# Altium schematic symbol library Ahristi_Library.SchLib: 438 symbols (part 4 of 5)
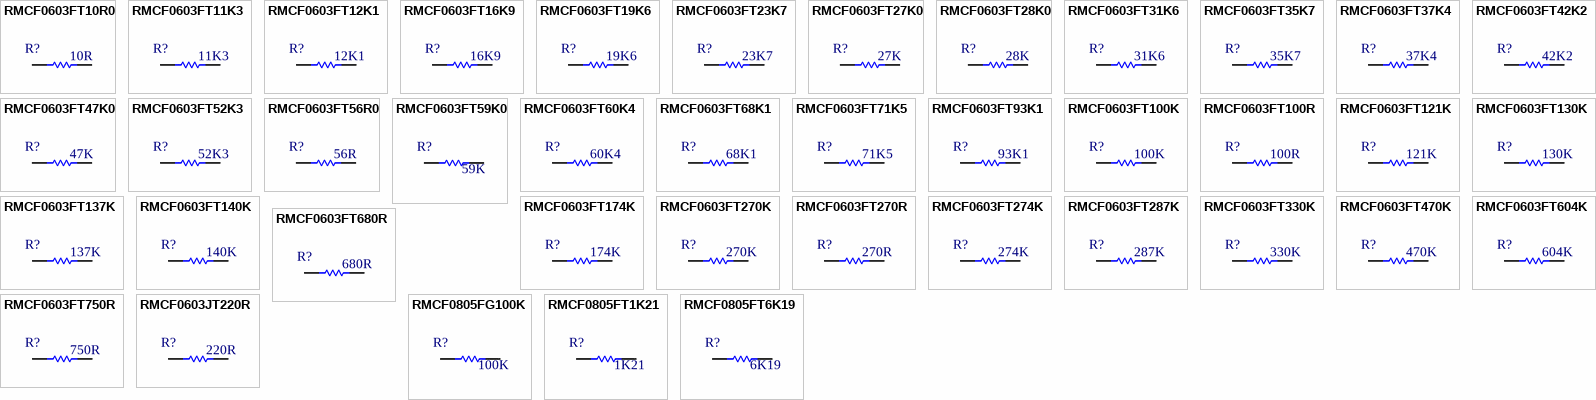
[diagram p15: symbols RMCF0603FT10R0 to RMCF0805FT6K19]

## RMCF0603FT470K
designator R?  Resistance: 470K  (hidden comment: RMCF0603FT470K)
470 kOhms ±1% 0.1W, 1/10W Chip Resistor 0603 (1608 Metric) Automotive AEC-Q200 Thick Film; Part Number: RMCF0603FT470K; Tolerance: 1%; Distributor: Digikey; Distributor Part Number: RMCF0603FT470KCT-ND; Case Code: 0603
footprint RESC0603 (Chip Resistor, 2-Leads, Body 1.60x0.80mm, IPC Medium Density)
pins: 1, 2

## RMCF0603FT604K
designator R?  Resistance: 604K  (hidden comment: RMCF0603FT604K)
604 kOhms ±1% 0.1W, 1/10W Chip Resistor 0603 (1608 Metric) Automotive AEC-Q200 Thick Film; Part Number: RMCF0603FT604K; Tolerance: 1%; Distributor: Digikey; Distributor Part Number: RMCF0603FT604KCT-ND; Case Code: 0603
footprint RESC0603 (Chip Resistor, 2-Leads, Body 1.60x0.80mm, IPC Medium Density)
pins: 1, 2

## RMCF0603FT680R
designator R?  Resistance: 680R  (hidden comment: RMCF0603FT680R)
680 Ohms ±1% 0.1W, 1/10W Chip Resistor 0603 (1608 Metric) Automotive AEC-Q200 Thick Film; Part Number: RMCF0603FT680R; Tolerance: 1%; Distributor: Digikey; Distributor Part Number: RMCF0603FT680RCT-ND; Case Code: 0603
footprint RESC0603 (Chip Resistor, 2-Leads, Body 1.60x0.80mm, IPC Medium Density)
pins: 1, 2

## RMCF0603FT750R
designator R?  Resistance: 750R  (hidden comment: RMCF0603FT750R)
750 Ohms ±1% 0.1W, 1/10W Chip Resistor 0603 (1608 Metric) Automotive AEC-Q200 Thick Film; Part Number: RMCF0603FT750R; Tolerance: 1%; Distributor: Digikey; Distributor Part Number: RMCF0603FT750RCT-ND; Case Code: 0603
footprint RESC0603 (Chip Resistor, 2-Leads, Body 1.60x0.80mm, IPC Medium Density)
pins: 1, 2

## RMCF0603JT220R
designator R?  Resistance: 220R  (hidden comment: RMCF0603JT220R)
220 Ohms ±5% 0.1W, 1/10W Chip Resistor 0603 (1608 Metric) Automotive AEC-Q200 Thick Film; Tolerance: 1%; Part Number: RMCF0603JT220R; Distributor: Digikey; Distributor Part Number: RMCF0603JT220RCT-ND; Case Code: 0603
footprint RESC0603 (Chip Resistor, 2-Leads, Body 1.60x0.80mm, IPC Medium Density)
pins: 1, 2

## RMCF0805FG100K
designator R?  Resistance: 100K  (hidden comment: RMCF0805FG100K)
100 kOhms ±1% 0.125W, 1/8W Chip Resistor 0805 (2012 Metric) Automotive AEC-Q200 Thick Film; Part Number: RMCF0805FG100K; Tolerance: 1%; Distributor Part Number: RMCF0805FG100KCT-ND; Distributor: Digikey; Case Code: 0805
footprint RESC0805 (Chip Resistor, 2-Leads, Body 1.00x0.50mm, IPC Medium Density)
pins: 1, 2

## RMCF0805FT1K21
designator R?  Resistance: 1K21  (hidden comment: RMCF0805FT1K21)
1.21 kOhms ±1% 0.125W, 1/8W Chip Resistor 0805 (2012 Metric) Automotive AEC-Q200 Thick Film; Part Number: RMCF0805FT1K21; Tolerance: 1%; Distributor Part Number: RMCF0805FT1K21CT-ND; Distributor: Digikey; Case Code: 0805
footprint RESC0805 (Chip Resistor, 2-Leads, Body 1.00x0.50mm, IPC Medium Density)
pins: 1, 2

## RMCF0805FT6K19
designator R?  Resistance: 6K19  (hidden comment: RMCF0805FT6K19)
6.19 kOhms ±1% 0.125W, 1/8W Chip Resistor 0805 (2012 Metric) Automotive AEC-Q200 Thick Film; Part Number: RMCF0805FT6K19; Tolerance: 1%; Distributor Part Number: RMCF0805FT6K19CT-ND; Distributor: Digikey; Case Code: 0805
footprint RESC0805 (Chip Resistor, 2-Leads, Body 1.00x0.50mm, IPC Medium Density)
pins: 1, 2

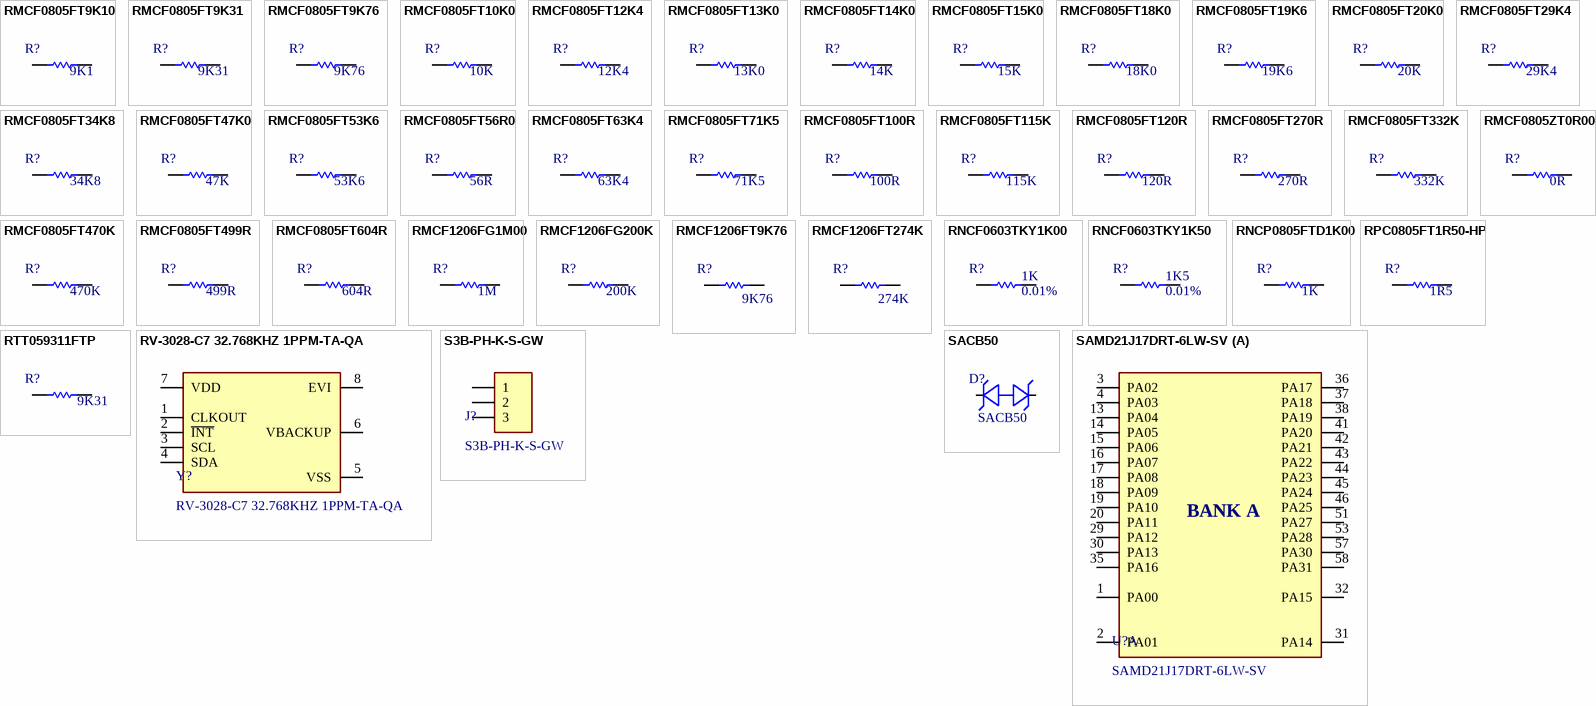
[diagram p9: symbols RMCF0805FT9K10 to SAMD21J17DRT-6LW-SV]

## RMCF0805FT9K10
designator R?  Resistance: 9K1  (hidden comment: RMCF0805FT9K10)
9.1 kOhms ±1% 0.125W, 1/8W Chip Resistor 0805 (2012 Metric) Automotive AEC-Q200 Thick Film; Part Number: RMCF0805FT9K10; Tolerance: 1%; Distributor Part Number: 738-RMCF0805FT9K10CT-ND; Distributor: Digikey; Case Code: 0805
footprint RESC0805 (Chip Resistor, 2-Leads, Body 1.00x0.50mm, IPC Medium Density)
pins: 1, 2

## RMCF0805FT9K31
designator R?  Resistance: 9K31  (hidden comment: RMCF0805FT9K31)
9.31 kOhms ±1% 0.125W, 1/8W Chip Resistor 0805 (2012 Metric) Automotive AEC-Q200 Thick Film; Part Number: RMCF0805FT9K31; Tolerance: 1%; Distributor Part Number: 738-RMCF0805FT9K31CT-ND; Distributor: Digikey; Case Code: 0805
footprint RESC0805 (Chip Resistor, 2-Leads, Body 1.00x0.50mm, IPC Medium Density)
pins: 1, 2

## RMCF0805FT9K76
designator R?  Resistance: 9K76  (hidden comment: RMCF0805FT9K76)
9.76 kOhms ±1% 0.125W, 1/8W Chip Resistor 0805 (2012 Metric) Automotive AEC-Q200 Thick Film; Part Number: RMCF0805FT9K76; Tolerance: 1%; Distributor Part Number: RMCF0805FT9K76CT-ND; Distributor: Digikey; Case Code: 0805
footprint RESC0805 (Chip Resistor, 2-Leads, Body 1.00x0.50mm, IPC Medium Density)
pins: 1, 2

## RMCF0805FT10K0
designator R?  Resistance: 10K  (hidden comment: RMCF0805FT10K0)
10 kOhms ±1% 0.125W, 1/8W Chip Resistor 0805 (2012 Metric) Automotive AEC-Q200 Thick Film; Part Number: RMCF0805FT10K0; Tolerance: 1%; Distributor Part Number: RMCF0805FT10K0CT-ND; Distributor: Digikey; Case Code: 0805
footprint RESC0805 (Chip Resistor, 2-Leads, Body 1.00x0.50mm, IPC Medium Density)
pins: 1, 2

## RMCF0805FT12K4
designator R?  Resistance: 12K4  (hidden comment: RMCF0805FT12K4)
12.4 kOhms ±1% 0.125W, 1/8W Chip Resistor 0805 (2012 Metric) Automotive AEC-Q200 Thick Film; Part Number: RMCF0805FT12K4; Tolerance: 1%; Distributor Part Number: RMCF0805FT12K4CT-ND; Distributor: Digikey; Case Code: 0805
footprint RESC0805 (Chip Resistor, 2-Leads, Body 1.00x0.50mm, IPC Medium Density)
pins: 1, 2

## RMCF0805FT13K0
designator R?  Resistance: 13K0  (hidden comment: RMCF0805FT13K0)
13 kOhms ±1% 0.125W, 1/8W Chip Resistor 0805 (2012 Metric) Automotive AEC-Q200 Thick Film; Part Number: RMCF0805FT13K0; Tolerance: 1%; Distributor Part Number: RMCF0805FT13K0CT-ND; Distributor: Digikey; Case Code: 0805
footprint RESC0805 (Chip Resistor, 2-Leads, Body 1.00x0.50mm, IPC Medium Density)
pins: 1, 2

## RMCF0805FT14K0
designator R?  Resistance: 14K  (hidden comment: RMCF0805FT14K0)
14 kOhms ±1% 0.125W, 1/8W Chip Resistor 0805 (2012 Metric) Automotive AEC-Q200 Thick Film; Part Number: RMCF0805FT14K0; Tolerance: 1%; Distributor Part Number: RMCF0805FT14K0CT-ND; Distributor: Digikey; Case Code: 0805
footprint RESC0805 (Chip Resistor, 2-Leads, Body 1.00x0.50mm, IPC Medium Density)
pins: 1, 2

## RMCF0805FT15K0
designator R?  Resistance: 15K  (hidden comment: RMCF0805FT15K0)
15 kOhms ±1% 0.125W, 1/8W Chip Resistor 0805 (2012 Metric) Automotive AEC-Q200 Thick Film; Part Number: RMCF0805FT15K0; Tolerance: 1%; Distributor Part Number: RMCF0805FT15K0CT-ND; Distributor: Digikey; Case Code: 0805
footprint RESC0805 (Chip Resistor, 2-Leads, Body 1.00x0.50mm, IPC Medium Density)
pins: 1, 2

## RMCF0805FT18K0
designator R?  Resistance: 18K0  (hidden comment: RMCF0805FT18K0)
18 kOhms ±1% 0.125W, 1/8W Chip Resistor 0805 (2012 Metric) Automotive AEC-Q200 Thick Film; Part Number: RMCF0805FT18K0; Tolerance: 1%; Distributor Part Number: RMCF0805FT18K0CT-ND; Distributor: Digikey; Case Code: 0805
footprint RESC0805 (Chip Resistor, 2-Leads, Body 1.00x0.50mm, IPC Medium Density)
pins: 1, 2

## RMCF0805FT19K6
designator R?  Resistance: 19K6  (hidden comment: RMCF0805FT19K6)
19.6 kOhms ±1% 0.125W, 1/8W Chip Resistor 0805 (2012 Metric) Automotive AEC-Q200 Thick Film; Part Number: RMCF0805FT19K6; Tolerance: 1%; Distributor Part Number: RMCF0805FT19K6CT-ND; Distributor: Digikey; Case Code: 0805
footprint RESC0805 (Chip Resistor, 2-Leads, Body 1.00x0.50mm, IPC Medium Density)
pins: 1, 2

## RMCF0805FT20K0
designator R?  Resistance: 20K  (hidden comment: RMCF0805FT20K0)
20 kOhms ±1% 0.125W, 1/8W Chip Resistor 0805 (2012 Metric) Automotive AEC-Q200 Thick Film; Part Number: RMCF0805FT20K0; Tolerance: 1%; Distributor Part Number: RMCF0805FT20K0CT-ND; Distributor: Digikey; Case Code: 0805
footprint RESC0805 (Chip Resistor, 2-Leads, Body 1.00x0.50mm, IPC Medium Density)
pins: 1, 2

## RMCF0805FT29K4
designator R?  Resistance: 29K4  (hidden comment: RMCF0805FT29K4)
29.4 kOhms ±1% 0.125W, 1/8W Chip Resistor 0805 (2012 Metric) Automotive AEC-Q200 Thick Film; Part Number: RMCF0805FT29K4; Tolerance: 1%; Distributor Part Number: RMCF0805FT29K4CT-ND; Distributor: Digikey; Case Code: 0805
footprint RESC0805 (Chip Resistor, 2-Leads, Body 1.00x0.50mm, IPC Medium Density)
pins: 1, 2

## RMCF0805FT34K8
designator R?  Resistance: 34K8  (hidden comment: RMCF0805FT34K8)
34.8 kOhms ±1% 0.125W, 1/8W Chip Resistor 0805 (2012 Metric) Automotive AEC-Q200 Thick Film; Part Number: RMCF0805FT34K8; Tolerance: 1%; Distributor Part Number: RMCF0805FT34K8CT-ND; Distributor: Digikey; Case Code: 0805
footprint RESC0805 (Chip Resistor, 2-Leads, Body 1.00x0.50mm, IPC Medium Density)
pins: 1, 2

## RMCF0805FT47K0
designator R?  Resistance: 47K  (hidden comment: RMCF0805FT47K0)
47 kOhms ±1% 0.125W, 1/8W Chip Resistor 0805 (2012 Metric) Automotive AEC-Q200 Thick Film; Part Number: RMCF0805FT47K0; Tolerance: 1%; Distributor Part Number: RMCF0805FT47K0CT-ND; Distributor: Digikey; Case Code: 0805
footprint RESC0805 (Chip Resistor, 2-Leads, Body 1.00x0.50mm, IPC Medium Density)
pins: 1, 2

## RMCF0805FT53K6
designator R?  Resistance: 53K6  (hidden comment: RMCF0805FT53K6)
53.6 kOhms ±1% 0.125W, 1/8W Chip Resistor 0805 (2012 Metric) Automotive AEC-Q200 Thick Film; Part Number: RMCF0805FT53K6; Tolerance: 1%; Distributor Part Number: RMCF0805FT53K6CT-ND; Distributor: Digikey; Case Code: 0805
footprint RESC0805 (Chip Resistor, 2-Leads, Body 1.00x0.50mm, IPC Medium Density)
pins: 1, 2

## RMCF0805FT56R0
designator R?  Resistance: 56R  (hidden comment: RMCF0805FT56R0)
56 Ohms ±1% 0.125W, 1/8W Chip Resistor 0805 (2012 Metric) Automotive AEC-Q200 Thick Film; Part Number: RMCF0805FT56R0; Tolerance: 1%; Distributor Part Number: RMCF0805FT56R0CT-ND; Distributor: Digikey; Case Code: 0805
footprint RESC0805 (Chip Resistor, 2-Leads, Body 1.00x0.50mm, IPC Medium Density)
pins: 1, 2

## RMCF0805FT63K4
designator R?  Resistance: 63K4  (hidden comment: RMCF0805FT63K4)
63.4 kOhms ±1% 0.125W, 1/8W Chip Resistor 0805 (2012 Metric) Automotive AEC-Q200 Thick Film; Part Number: RMCF0805FT63K4; Tolerance: 1%; Distributor Part Number: RMCF0805FT63K4CT-ND; Distributor: Digikey; Case Code: 0805
footprint RESC0805 (Chip Resistor, 2-Leads, Body 1.00x0.50mm, IPC Medium Density)
pins: 1, 2

## RMCF0805FT71K5
designator R?  Resistance: 71K5  (hidden comment: RMCF0805FT71K5)
71.5 kOhms ±1% 0.125W, 1/8W Chip Resistor 0805 (2012 Metric) Automotive AEC-Q200 Thick Film; Part Number: RMCF0805FT71K5; Tolerance: 1%; Distributor Part Number: RMCF0805FT71K5CT-ND; Distributor: Digikey; Case Code: 0805
footprint RESC0805 (Chip Resistor, 2-Leads, Body 1.00x0.50mm, IPC Medium Density)
pins: 1, 2

## RMCF0805FT100R
designator R?  Resistance: 100R  (hidden comment: RMCF0805FT100R)
100 Ohms ±1% 0.125W, 1/8W Chip Resistor 0805 (2012 Metric) Automotive AEC-Q200 Thick Film; Part Number: RMCF0805FT100R; Tolerance: 1%; Distributor Part Number: RMCF0805FT100RCT-ND; Distributor: Digikey; Case Code: 0805
footprint RESC0805 (Chip Resistor, 2-Leads, Body 1.00x0.50mm, IPC Medium Density)
pins: 1, 2

## RMCF0805FT115K
designator R?  Resistance: 115K  (hidden comment: RMCF0805FT115K)
115 kOhms ±1% 0.125W, 1/8W Chip Resistor 0805 (2012 Metric) Automotive AEC-Q200 Thick Film; Part Number: RMCF0805FT115K; Tolerance: 1%; Distributor Part Number: RMCF0805FT115KCT-ND; Distributor: Digikey; Case Code: 0805
footprint RESC0805 (Chip Resistor, 2-Leads, Body 1.00x0.50mm, IPC Medium Density)
pins: 1, 2

## RMCF0805FT120R
designator R?  Resistance: 120R  (hidden comment: RMCF0805FT120R)
120 Ohms ±1% 0.125W, 1/8W Chip Resistor 0805 (2012 Metric) Automotive AEC-Q200 Thick Film; Part Number: RMCF0805FT120R; Tolerance: 1%; Distributor Part Number: 738-RMCF0805FT120RCT-ND; Distributor: Digikey; Case Code: 0805
footprint RESC0805 (Chip Resistor, 2-Leads, Body 1.00x0.50mm, IPC Medium Density)
pins: 1, 2

## RMCF0805FT270R
designator R?  Resistance: 270R  (hidden comment: RMCF0805FT270R)
270 Ohms ±1% 0.125W, 1/8W Chip Resistor 0805 (2012 Metric) Automotive AEC-Q200 Thick Film; Part Number: RMCF0805FT270R; Tolerance: 1%; Distributor Part Number: RMCF0805FT270RCT-ND; Distributor: Digikey; Case Code: 0805
footprint RESC0805 (Chip Resistor, 2-Leads, Body 1.00x0.50mm, IPC Medium Density)
pins: 1, 2

## RMCF0805FT332K
designator R?  Resistance: 332K  (hidden comment: RMCF0805FT332K)
332 kOhms ±1% 0.125W, 1/8W Chip Resistor 0805 (2012 Metric) Automotive AEC-Q200 Thick Film; Part Number: RMCF0805FT332K; Tolerance: 1%; Distributor Part Number: RMCF0805FT332KCT-ND; Distributor: Digikey; Case Code: 0805
footprint RESC0805 (Chip Resistor, 2-Leads, Body 1.00x0.50mm, IPC Medium Density)
pins: 1, 2

## RMCF0805FT470K
designator R?  Resistance: 470K  (hidden comment: RMCF0805FT470K)
470 kOhms ±1% 0.125W, 1/8W Chip Resistor 0805 (2012 Metric) Automotive AEC-Q200 Thick Film; Part Number: RMCF0805FT470K; Tolerance: 1%; Distributor Part Number: 738-RMCF0805FT470KCT-ND; Distributor: Digikey; Case Code: 0805
footprint RESC0805 (Chip Resistor, 2-Leads, Body 1.00x0.50mm, IPC Medium Density)
pins: 1, 2

## RMCF0805FT499R
designator R?  Resistance: 499R  (hidden comment: RMCF0805FT499R)
499 Ohms ±1% 0.125W, 1/8W Chip Resistor 0805 (2012 Metric) Automotive AEC-Q200 Thick Film; Part Number: RMCF0805FT499R; Tolerance: 1%; Distributor Part Number: RMCF0805FT499RCT-ND; Distributor: Digikey; Case Code: 0805
footprint RESC0805 (Chip Resistor, 2-Leads, Body 1.00x0.50mm, IPC Medium Density)
pins: 1, 2

## RMCF0805FT604R
designator R?  Resistance: 604R  (hidden comment: RMCF0805FT604R)
604 Ohms ±1% 0.125W, 1/8W Chip Resistor 0805 (2012 Metric) Automotive AEC-Q200 Thick Film; Part Number: RMCF0805FT604R; Tolerance: 1%; Distributor Part Number: RMCF0805FT604RCT-ND; Distributor: Digikey; Case Code: 0805
footprint RESC0805 (Chip Resistor, 2-Leads, Body 1.00x0.50mm, IPC Medium Density)
pins: 1, 2

## RMCF0805ZT0R00
designator R?  Resistance: 0R  (hidden comment: RMCF0805ZT0R00)
0 Ohms Jumper Chip Resistor 0805 (2012 Metric) Automotive AEC-Q200 Thick Film; Tolerance: 1%; Part Number: RMCF0805ZT0R00; Distributor Part Number: RMCF0805ZT0R00CT-ND; Distributor: Digikey; Case Code: 0805
footprint RESC0805 (Chip Resistor, 2-Leads, Body 1.00x0.50mm, IPC Medium Density)
pins: 1, 2

## RMCF1206FG1M00
designator R?  Resistance: 1M  (hidden comment: RMCF1206FG1M00)
1 MOhms ±1% 0.25W, 1/4W Chip Resistor 1206 (3216 Metric) Automotive AEC-Q200 Thick Film; Manufacturer: Stackpole; Part Number: RMCF1206FG1M00; Tolerance: 1%; Distributor Part Number: RMCF1206FG1M00CT-ND; Distributor: Digikey; Case Code: 1206
footprint RESC1206 (Chip Resistor, 2-Leads, Body 3.2x1.60mm, IPC Medium Density)
pins: 1, 2

## RMCF1206FG200K
designator R?  Resistance: 200K  (hidden comment: RMCF1206FG200K)
200 kOhms ±1% 0.25W, 1/4W Chip Resistor 1206 (3216 Metric) Automotive AEC-Q200 Thick Film; Manufacturer: Stackpole; Part Number: RMCF1206FG200K; Tolerance: 1%; Distributor Part Number: 738-RMCF1206FG200KCT-ND; Distributor: Digikey; Case Code: 1206
footprint RESC1206 (Chip Resistor, 2-Leads, Body 3.2x1.60mm, IPC Medium Density)
pins: 1, 2

## RMCF1206FT9K76
designator R?  Resistance: 9K76  (hidden comment: RMCF1206FT9K76)
9.76 kOhms ±1% 0.25W, 1/4W Chip Resistor 1206 (3216 Metric) Automotive AEC-Q200 Thick Film; Manufacturer: Stackpole; Part Number: RMCF1206FT9K76; Tolerance: 1%; Distributor Part Number: RMCF1206FT9K76CT-ND; Distributor: Digikey; Case Code: 1206
footprint RESC1206 (Chip Resistor, 2-Leads, Body 3.2x1.60mm, IPC Medium Density)
pins: 1, 2

## RMCF1206FT274K
designator R?  Resistance: 274K  (hidden comment: RMCF1206FT274K)
274 kOhms ±1% 0.25W, 1/4W Chip Resistor 1206 (3216 Metric) Automotive AEC-Q200 Thick Film; Manufacturer: Stackpole; Part Number: RMCF1206FT274K; Tolerance: 1%; Distributor Part Number: RMCF1206FT274KCT-ND; Distributor: Digikey; Case Code: 1206
footprint RESC1206 (Chip Resistor, 2-Leads, Body 3.2x1.60mm, IPC Medium Density)
pins: 1, 2

## RNCF0603TKY1K00
designator R?  Tolerance: 0.01%  Resistance: 1K  (hidden comment: RNCF0603TKY1K00)
1 kOhms ±0.01% 0.1W, 1/10W Chip Resistor 0603 (1608 Metric) Automotive AEC-Q200 Thin Film; Part Number: RNCF0603TKY1K00; Distributor: Digikey; Distributor Part Number: RNCF0603TKY1K00CT-ND; Case Code: 0603
footprint RESC0603 (Chip Resistor, 2-Leads, Body 1.60x0.80mm, IPC Medium Density)
pins: 1, 2

## RNCF0603TKY1K50
designator R?  Tolerance: 0.01%  Resistance: 1K5  (hidden comment: RNCF0603TKY1K50)
1.5 kOhms ±0.01% 0.1W, 1/10W Chip Resistor 0603 (1608 Metric) Automotive AEC-Q200 Thin Film; Part Number: RNCF0603TKY1K50; Distributor: Digikey; Distributor Part Number: 738-RNCF0603TKY1K50CT-ND; Case Code: 0603
footprint RESC0603 (Chip Resistor, 2-Leads, Body 1.60x0.80mm, IPC Medium Density)
pins: 1, 2

## RNCP0805FTD1K00
designator R?  Resistance: 1K  (hidden comment: RNCP0805FTD1K00)
1 kOhms ±1% 0.25W, 1/4W Chip Resistor 0805 (2012 Metric) Anti-Sulfur Thin Film; Manufacturer Part Number: RNCP0805FTD1K00; Tolerance: 1%; Distributor Part Number: RNCP0805FTD1K00CT-ND; Distributor: Digikey; Case Code: 0805
footprint RESC0805 (Chip Resistor, 2-Leads, Body 1.00x0.50mm, IPC Medium Density)
pins: 1, 2

## RPC0805FT1R50-HP
designator R?  Resistance: 1R5  (hidden comment: RPC0805FT1R50-HP)
1.5 Ohms ±1% 0.4W Chip Resistor 0805 (2012 Metric) Automotive AEC-Q200, Pulse Withstanding Thick Film; Part Number: RPC0805FT1R50-HP; Tolerance: 1%; Distributor Part Number: 738-RPC0805FT1R50-HPCT-ND; Distributor: Digikey; Case Code: 0805
footprint RESC0805 (Chip Resistor, 2-Leads, Body 1.00x0.50mm, IPC Medium Density)
pins: 1, 2

## RTT059311FTP
designator R?  Resistance: 9K31  (hidden comment: RTT059311FTP)
9.31k Ohms Thick Film Resistor ±1% ±100ppm/℃ 0805 Chip Resistor - Surface Mount ROHS; Manufacturer: RALEC; Part Number: RTT059311FTP; Tolerance: 1%; Distributor Part Number: C158169; Distributor: JLCPCB; Case Code: 0805
footprint RESC0805 (Chip Resistor, 2-Leads, Body 1.00x0.50mm, IPC Medium Density)
pins: 1, 2

## RV-3028-C7 32.768KHZ 1PPM-TA-QA
designator Y?
Real Time Clock (RTC) IC Clock/Calendar 2B, 43B I2C, 2-Wire Serial 8-WCDFN; Voltage - Supply: 1.1V ~ 5.5V; Current - Timekeeping: 0.06µA @ 3V; Part Number: RV-3028-C7 32.768KHZ 1PPM-TA-QA; Distributor: Digikey; Distributor Part Number: 2195-RV-3028-C732.768KHZ1PPM-TA-QACT-ND; Operating Temperature: -40°C ~ 85°C
footprint RV-3028 (8-SON (3.2x1.5) Micro Crystal AG)
pins: 1 CLKOUT, 2 ~{INT}, 3 SCL, 4 SDA, 5 VSS, 6 VBACKUP, 7 VDD, 8 EVI

## S3B-PH-K-S-GW
designator J?
JST 3pin 2.0mm right angle connector; Number of Positions: 3; Part Number: S3B-PH-K-S-GW; Distributor Part Number: 306-S3B-PH-K-S-GW; Distributor: Mouser; Number of Rows: 1
footprint S3B-PH-K-S-GW (3 Pin right angle JST)
pins: 1, 2, 3

## SACB50
designator D?  Manufacturer Part Number: SACB50
Transient Voltage Suppression Diodes - TVS TVS 500W 50V; Voltage - Breakdown (Min): 55.5V; Voltage - Clamping (Max): 88V; Current - Peak Pulse: 5.8A; Digikey Part Number: SACB50CT-ND; Voltage - Reverse Standoff: 50V; Operating Temperature: -55°C ~ 150°C (TJ)
footprint DO-214AA
pins: A, K

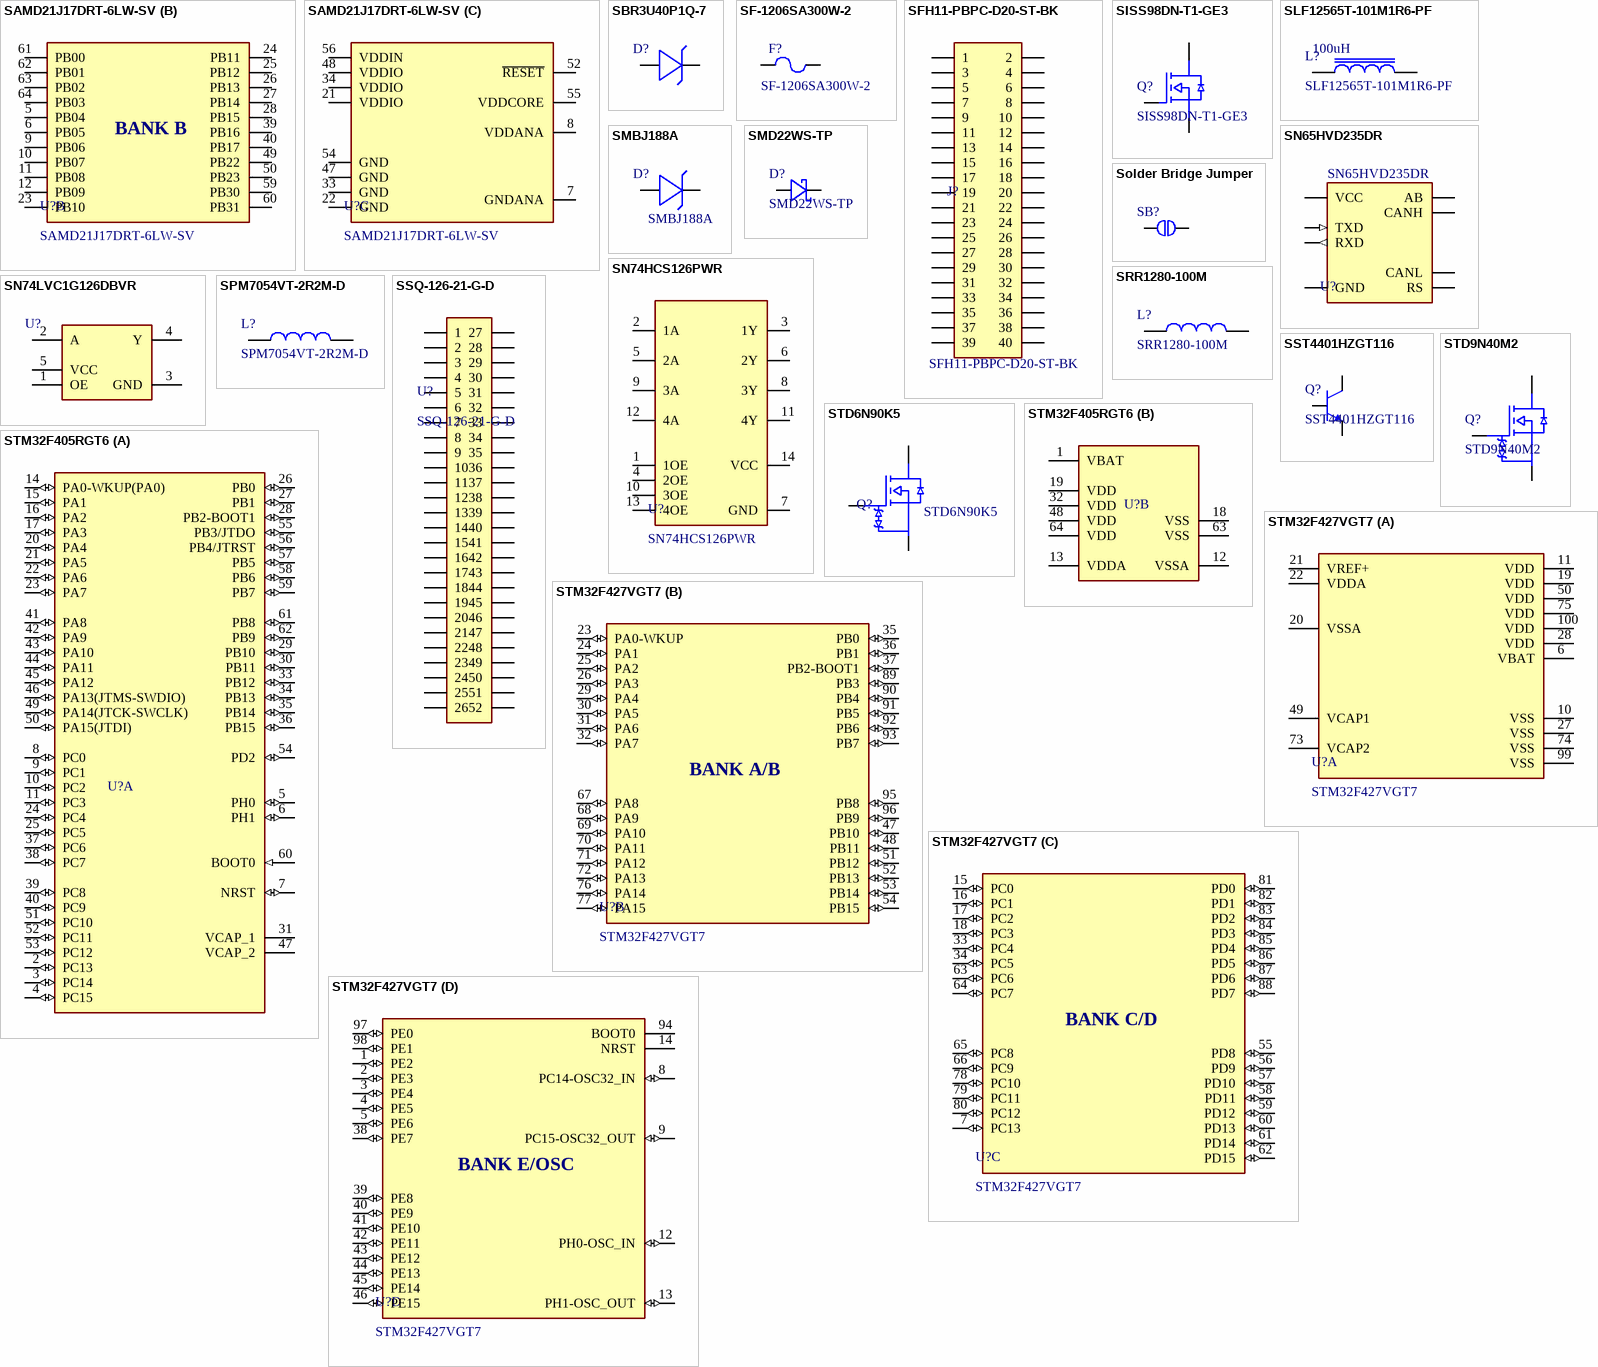
[diagram p10: symbols SAMD21J17DRT-6LW-SV to STM32F427VGT7]

## SAMD21J17DRT-6LW-SV
designator U?
MCU, Radiation Tolerant >50 kRad, 32-Bit 48MHz 128KB (128K x 8) FLASH 64-TQFP (10x10); SRAM: 16kB; SEL - Single Event Latchup: >78 Mev.cm²/mg; TID - Total Ionizing Dose: 50kRad; Supply Voltage: 3.0V to 3.6V; Part Number: SAMD21J17DRT-6LW-SV; Distributor Part Number: *; Operating Frequency: 48MHz; Flash Memory: 128kB; Operating Temperature: -40 °C to +125 °C
footprint Microchip LQFP-64 (LQFP-64)
part A pins: 1 PA00, 2 PA01, 3 PA02, 4 PA03, 13 PA04, 14 PA05, 15 PA06, 16 PA07, 17 PA08, 18 PA09, 19 PA10, 20 PA11, 29 PA12, 30 PA13, 31 PA14, 32 PA15, 35 PA16, 36 PA17, 37 PA18, 38 PA19, 41 PA20, 42 PA21, 43 PA22, 44 PA23, 45 PA24, 46 PA25, 51 PA27, 53 PA28, 57 PA30, 58 PA31
part B pins: 5 PB04, 6 PB05, 9 PB06, 10 PB07, 11 PB08, 12 PB09, 23 PB10, 24 PB11, 25 PB12, 26 PB13, 27 PB14, 28 PB15, 39 PB16, 40 PB17, 49 PB22, 50 PB23, 59 PB30, 60 PB31, 61 PB00, 62 PB01, 63 PB02, 64 PB03
part C pins: 7 GNDANA, 8 VDDANA, 21 VDDIO, 22 GND, 33 GND, 34 VDDIO, 47 GND, 48 VDDIO, 52 ~{RESET}, 54 GND, 55 VDDCORE, 56 VDDIN
part A text: BANK A
part B text: BANK B

## SBR3U40P1Q-7
designator D?  (value not drawn)
Manufacturer Part Number: SBR3U40P1Q-7; Manufacturer: Diodes Incorporated; Vbr: 28V; Vf: 420mV; Ifsm: 75A; Qualification: AEC-Q101; Operating Temperature: -65C to 150C
footprint SBR3U40P1Q-7 (Schottky Diodes & Rectifiers 3.0A SBR PowerDI 40Vrrm 0.47Vf 400uA)
pins: A, K

## SF-1206SA300W-2
designator F?
Fuse Surface Mount 3A Slow Blow 50A Interrupt 1206; Interrupt Rating: 50A at 125VAC 50A at 125VDC; Fuse Size: 9.73 mm x 5.03 mm; Min Temperature: -55C; Max Temperature: 125C; Voltage Rating - DC: 65V; Current Rating: 3A; Distributor: Digikey; Distributor Part Number: 118-SF-1206SA300W-2CT-ND; Breaking Capacity: 50A; Part Number: SF-1206SA300W-2
footprint SF-1206SA300W-2 (1206 Fuse)
pins: 1, 2

## SFH11-PBPC-D20-ST-BK
designator J?  Part Number: SFH11-PBPC-D20-ST-BK
Header, 40 Position Through Hole 0.100"; Positions: 40; Rows: 2; Digikey Part Number: S9200-ND
footprint SFH11-PBPC-D20-ST-BK (CONN HDR 40POS 0.1 GOLD PCB)
pins: 1, 2, 3, 4, 5, 6, 7, 8, 9, 10, 11, 12, 13, 14, 15, 16, 17, 18, 19, 20, 21, 22, 23, 24, 25, 26, 27, 28, 29, 30, 31, 32, 33, 34, 35, 36, 37, 38, 39, 40

## SISS98DN-T1-GE3
designator Q?
N-Channel 200 V 14.1A (Tc) 57W (Tc) Surface Mount PowerPAK® 1212-8S; Manufacturer: Vishay; Vdss: 200V; Rds On (Max): 105mOhm; Gate Charge (Qg) (Max) @ Vgs: 14 nC @ 7.5 V; Vgs (Max): 20V; Input Capacitance: 608 pF @ 100 V; Part Number: SISS98DN-T1-GE3; Distributor: Digikey; Distributor Part Number: SISS98DN-T1-GE3CT-ND; Current - Continuous Drain (Id): 14.1A; Power Dissipation (Max) (Ta): 57W; Operating Temperature: -55°C ~ 150°C (TJ); ComponentLink1Description: Datasheet; ComponentLink1URL: https://www.onsemi.com/pdf/datasheet/nttfs5c454nl-d.pdf
footprint PowerPAK 1212-8 (Vishay PowerPAK 1212-8)
pins: D, G, S

## SLF12565T-101M1R6-PF
designator L?  Inductance: 100uH
Inductor 100uH Shielded Drum Core, 1.9A 148mOhm; Saturation Current: 1.6A; Part Number: SLF12565T-101M1R6-PF; Distributor: Digikey; Distributor Part Number: 445-174227-1-ND; Operating Temperature: -20°C ~ 105°C; Current Rating: 1.9A; DC Resistance: 148mOhm
footprint SLF12565T-101M1R6-PF (Shielded Inductor Non-Standard)
pins: 1, 2

## SMBJ188A
designator D?  Manufacturer Part Number: SMBJ188A
328V Clamp 2A Ipp Tvs Diode Surface Mount DO-214AA (SMBJ); Vr: 188; Ir@Vr: 1uA; Vbr: 231V; Operating Temperature: -55 to 150C
footprint DO-214AA
pins: A, K

## SMD22WS-TP
designator D?
Diode Schottky 20V 2A Fast Recovery; fORWARD vOLTAGE: 550mV; Part Number: SMD22WS-TP; Distributor: Digikey; Distributor Part Number: SMD22WS-TPMSCT-ND; Operating Temperature: -55°C ~ 125°C; Voltage - DC Reverse: 20V; Current - Average: 2A
footprint SOD-323 (SOD-323 small outline)
pins: A, K

## SN65HVD235DR
designator U?  Manufacturer Part Number: SN65HVD235DR
CAN Interface IC 3.3V, Standby Mode Auto Loop-back; Supply Voltage - Min: 3V; Supply Voltage - Max: 3.6V; Operating Supply Current: 6mA; Datarate: 1Mb/s; Operating Temperature Range: -40C to 125C; ComponentLink1Description: Datasheet; ComponentLink1URL: https://www.ti.com/lit/ds/symlink/sn65hvd235.pdf?ts=1728838511205&ref_url=https%253A%252F%252Fwww.mouser.co.uk%252F
footprint SOIC-8 (SOIC-8 Analog Devices Spec)
pins: 1 TXD (in), 2 GND, 3 VCC, 4 RXD (out), 5 AB, 6 CANL, 7 CANH, 8 RS

## SN74HCS126PWR
designator U?
Buffer, Non-Inverting 4 Element 1 Bit per Element 3-State Output 14-TSSOP; Voltage - Supply: 2V ~ 6V; Current - Output: 7.8mA; Number of Ekenebts: 4; Part Number: SN74HCS126PWR; Distributor Part Number: 296-SN74HCS126PWRCT-ND; Distributor: Digikey; Operating Temperature: -40°C ~ 125°C (TA)
footprint 14-TSSOP (Analog Devices 14-TSSOP)
pins: 1 1OE, 2 1A, 3 1Y, 4 2OE, 5 2A, 6 2Y, 7 GND, 8 3Y, 9 3A, 10 3OE, 11 4Y, 12 4A, 13 4OE, 14 VCC

## SN74LVC1G126DBVR
designator U?
Buffer Non-Inverting 1- Element 1 Bit 5.5V SOT-23-5; Part Number: SN74LVC1G126DBVR; Voltage Supply: 1.65V - 5.5V; Min Temperature: -40C; Max Temperature: 125C; ComponentLink1Description: Datasheet; ComponentLink1URL: https://www.ti.com/lit/ds/symlink/sn74lvc1g126.pdf?HQS=dis-dk-null-digikeymode-dsf-pf-null-wwe&ts=1755607801606&ref_url=https%253A%252F%252Fwww.ti.com%252Fgeneral%252Fdocs%252Fsuppproductinfo.tsp%253FdistId%253D10%2526gotoUrl%253Dhttps%253A%252F%252Fwww.ti.com%252Flit%252Fgpn%252Fsn74lvc1g126
footprint SOT23-5 IC (SOT23-5)
pins: 1 OE, 2 A, 3 GND, 4 Y, 5 VCC

## Solder Bridge Jumper
designator SB?  (no BOM)
Solder Bridge Jumper
footprint Solder Bridge (Generic Solder Jumper)
pins: 1, 2

## SPM7054VT-2R2M-D
designator L?
2.2 µH Shielded Drum Core, Wirewound Inductor 12 A 7.4mOhm Nonstandard; Inductance: 2.2uH; Tolerance: 20%; Current Rating: 12A; Current - Saturation: 14.1A; Part Number: SPM7054VT-2R2M-D; Distributor Part Number: 445-SPM7054VT-2R2M-DCT-ND; Distributor: Digikey; DC Resistance: 7.4mOhm; Operating Temperature: -55°C ~ 155°C
footprint SPM7054VT-2R2M-D
pins: 1, 2

## SRR1280-100M
designator L?
10 µH Shielded Drum Core, Wirewound Inductor 6 A 19.5mOhm Max Nonstandard; Inductance: 10uH; Tolerance: 20%; Current Rating: 6A; Current - Saturation: 6.3A; Part Number: SRR1280-100M; Distributor Part Number: SRR1280-100MCT-ND; Distributor: Digikey; DC Resistance: 19.5mOhm; Operating Temperature: -40°C ~ 125°C
footprint SRR1280-100M (12.50mm x 12.50mm Inductor)
pins: 1, 2

## SSQ-126-21-G-D
designator U?
Connector Receptacle 52 Position 0.100" (2.54mm) Through Hole Gold; Current Rating: 6.3A; Number of Positions: 52; Voltage Rating (AC): 465V; Voltage Rating (DC): 655V; Part Number: SSQ-126-21-G-D; Distributor Part Number: SSQ-126-21-G-D-ND; Distributor: Digikey; Operating Temperature: -55°C ~ 125°C; Number of Rows: 2
footprint SSQ-126-21-G-D (52 Position 0.100" Header)
pins: 1, 2, 3, 4, 5, 6, 7, 8, 9, 10, 11, 12, 13, 14, 15, 16, 17, 18, 19, 20, 21, 22, 23, 24, 25, 26, 27, 28, 29, 30, 31, 32, 33, 34, 35, 36, 37, 38, 39, 40, 41, 42, 43, 44, 45, 46, 47, 48, 49, 50, 51, 52

## SST4401HZGT116
designator Q?
BJT NPN 0.6A 40VCEO AEC-Q101; VCEO: 40V; Ic: 600mA; Part Number: SST4401HZGT116; Distributor: Mouser; Distributor Part Number: 755-SST4401HZGT116; Operating Temperature: -50°C to 150°C
footprint SOT23-3 BJT (Diodes Incorporated SOT-23 land pattern with MOSFET pin designators)
pins: B, C, E

## STD6N90K5
designator Q?  Manufacturer Part Number: STD6N90K5
N-channel 900 V, 0.91 Ω typ., 6 A MDmesh K5 Power MOSFET; Vgs (Max): +/-30V; Vds (Max): 900V; Rds (on): 1.1ohm; Id: 6A; Distributor Part Number: *; Package: TO-252; Operating Temperature: -55 TO 150C
footprint TO-252 DPAK (DPAK)
pins: 1 G, 2 D, 3 S

## STD9N40M2
designator Q?
N-Channel 400 V 6A (Tc) 60W (Tc) Surface Mount DPAK; VDss: 400V; Current - Continuous Drain (Id) @ 25C: 6A (Tc); Drive Voltage: 10V; Rds On Max: 800mOhm; VGs(th): 4V; Input Capacitance: 270pF @ 100V; Part Number: STD9N40M2; Distributor: Digikey; Distributor Part Number: 497-15465-1-ND; Operating Temperature: -55°C ~ 150°C (TJ)
footprint dpak (DPAK MOSFET)
pins: 1 G, 2 D, 3 S

## STM32F405RGT6
designator U?
ARM Cortex-M4 32-bit MCU+FPU, 210 DMIPS, 1024 kB Flash, 192 kB Internal RAM, 51 I/Os, 64-pin LQFP, -40 to 85 degC, Tray; Manufacturer Part Number: STM32F405RGT6; Qualifications: None; Distributor Part Number: *; Package: *
footprint STM32F405RGT6 (ARM® Cortex®-M4 STM32F4 Microcontroller IC 32-Bit Single-Core 168MHz 1MB (1M x 8) FLASH 64-LQFP (10x10))
part A pins: 2 PC13 (io) "PC13/EVENTOUT/RTC_OUT,RTC_TAMP1,RTC_TS", 3 PC14 (io) "PC14-OSC32_IN(PC14)/EVENTOUT/OSC32_IN", 4 PC15 (io) "PC15-OSC32_OUT(PC15)/EVENTOUT/OSC32_OUT", 5 PH0 (io) "PH0-OSC_IN(PH0)/EVENTOUT/OSC_IN", 6 PH1 (io) "PH1-OSC_OUT(PH1)/EVENTOUT/OSC_OUT", 7 NRST (io), 8 PC0 (io) "PC0/OTG_HS_ULPI_STP/EVENTOUT/ADC123_IN10", 9 PC1 (io) "PC1/ETH_MDC/EVENTOUT/ADC123_IN11", 10 PC2 (io) "PC2/SPI2_MISO/OTG_HS_ULPI_DIR/ETH_MII_TXD2/I2S2ext_SD/EVENTOUT/ADC123_IN12", 11 PC3 (io) "PC3/SPI2_MOSI/I2S2_SD/OTG_HS_ULPI_NXT/ETH_MII_TX_CLK/EVENTOUT/ADC123_IN13", 14 PA0-WKUP(PA0) (io) "PA0-WKUP(PA0)/USART2_CTS/UART4_TX/ETH_MII_CRS/TIM2_CH1_ETR/TIM5_CH1/TIM8_ETR/EVENTOUT/ADC123_IN0/WKUP", 15 PA1 (io) "PA1/USART2_RTS/UART4_RX/ETH_RMII_REF_CLK/ETH_MII_RX_CLK/TIM5_CH2/TIM2_CH2/EVENTOUT/ADC123_IN1", 16 PA2 (io) "PA2/USART2_TX/TIM5_CH3/TIM9_CH1/TIM2_CH3/ETH_MDIO/EVENTOUT/ADC123_IN2", 17 PA3 (io) "PA3/USART2_RX/TIM5_CH4/TIM9_CH2/TIM2_CH4/OTG_HS_ULPI_D0/ETH_MII_COL/EVENTOUT/ADC123_IN3", 20 PA4 (io) "PA4/SPI1_NSS/SPI3_NSS/USART2_CK/DCMI_HSYNC/OTG_HS_SOF/I2S3_WS/EVENTOUT/ADC12_IN4/DAC_OUT1", 21 PA5 (io) "PA5/SPI1_SCK/OTG_HS_ULPI_CK/TIM2_CH1_ETR/TIM8_CH1N/EVENTOUT/ADC12_IN5/DAC_OUT2", 22 PA6 (io) "PA6/SPI1_MISO/TIM8_BKIN/TIM13_CH1/DCMI_PIXCLK/TIM3_CH1/TIM1_BKIN/EVENTOUT/ADC12_IN6", 23 PA7 (io) "PA7/SPI1_MOSI/TIM8_CH1N/TIM14_CH1/TIM3_CH2/ETH_MII_RX_DV/TIM1_CH1N/ETH_RMII_CRS_DV/EVENTOUT/ADC12_IN7", 24 PC4 (io) "PC4/ETH_RMII_RX_D0/ETH_MII_RX_D0/EVENTOUT/ADC12_IN14", 25 PC5 (io) "PC5/ETH_RMII_RX_D1/ETH_MII_RX_D1/EVENTOUT/ADC12_IN15", 26 PB0 (io) "PB0/TIM3_CH3/TIM8_CH2N/OTG_HS_ULPI_D1/ETH_MII_RXD2/TIM1_CH2N/EVENTOUT/ADC12_IN8", 27 PB1 (io) "PB1/TIM3_CH4/TIM8_CH3N/OTG_HS_ULPI_D2/ETH_MII_RXD3/TIM1_CH3N/EVENTOUT/ADC12_IN9", 28 PB2-BOOT1 (io) "PB2-BOOT1(PB2)/EVENTOUT", 29 PB10 (io) "PB10/SPI2_SCK/I2S2_CK/I2C2_SCL/USART3_TX/OTG_HS_ULPI_D3/ETH_MII_RX_ER/TIM2_CH3/EVENTOUT", 30 PB11 (io) "PB11/I2C2_SDA/USART3_RX/OTG_HS_ULPI_D4/ETH_RMII_TX_EN/ETH_MII_TX_EN/TIM2_CH4/EVENTOUT", 31 VCAP_1 (power), 33 PB12 (io) "PB12/SPI2_NSS/I2S2_WS/I2C2_SMBA/USART3_CK/TIM1_BKIN/CAN2_RX/OTG_HS_ULPI_D5/ETH_RMII_TXD0/ETH_MII_TXD0/OTG_HS_ID/EVENTOUT", 34 PB13 (io) "PB13/SPI2_SCK/I2S2_CK/USART3_CTS/TIM1_CH1N/CAN2_TX/OTG_HS_ULPI_D6/ETH_RMII_TXD1/ETH_MII_TXD1/EVENTOUT/OTG_HS_VBUS", 35 PB14 (io) "PB14/SPI2_MISO/TIM1_CH2N/TIM12_CH1/OTG_HS_DM/USART3_RTS/TIM8_CH2N/I2S2ext_SD/EVENTOUT", 36 PB15 (io) "PB15/SPI2_MOSI/I2S2_SD/TIM1_CH3N/TIM8_CH3N/TIM12_CH2/OTG_HS_DP/EVENTOUT/RTC_REFIN", 37 PC6 (io) "PC6/I2S2_MCK/TIM8_CH1/SDIO_D6/USART6_TX/DCMI_D0/TIM3_CH1/EVENTOUT", 38 PC7 (io) "PC7/I2S3_MCK/TIM8_CH2/SDIO_D7/USART6_RX/DCMI_D1/TIM3_CH2/EVENTOUT", 39 PC8 (io) "PC8/TIM8_CH3/SDIO_D0/TIM3_CH3/USART6_CK/DCMI_D2/EVENTOUT", 40 PC9 (io) "PC9/I2S_CKIN/MCO2/TIM8_CH4/SDIO_D1/I2C3_SDA/DCMI_D3/TIM3_CH4/EVENTOUT", 41 PA8 (io) "PA8/MCO1/USART1_CK/TIM1_CH1/I2C3_SCL/OTG_FS_SOF/EVENTOUT", 42 PA9 (io) "PA9/USART1_TX/TIM1_CH2/I2C3_SMBA/DCMI_D0/EVENTOUT/OTG_FS_VBUS", 43 PA10 (io) "PA10/USART1_RX/TIM1_CH3/OTG_FS_ID/DCMI_D1/EVENTOUT", 44 PA11 (io) "PA11/USART1_CTS/CAN1_RX/TIM1_CH4/OTG_FS_DM/EVENTOUT", 45 PA12 (io) "PA12/USART1_RTS/CAN1_TX/TIM1_ETR/OTG_FS_DP/EVENTOUT", 46 PA13(JTMS-SWDIO) (io) "PA13(JTMS-SWDIO)/JTMS-SWDIO/EVENTOUT", 47 VCAP_2 (power), 49 PA14(JTCK-SWCLK) (io) "PA14(JTCK-SWCLK)/JTCK-SWCLK/EVENTOUT", 50 PA15(JTDI) (io) "PA15(JTDI)/JTDI/SPI3_NSS/I2S3_WS/TIM2_CH1_ETR/SPI1_NSS/EVENTOUT", 51 PC10 (io) "PC10/SPI3_SCK/I2S3_CK/UART4_TX/SDIO_D2/DCMI_D8/USART3_TX/EVENTOUT", 52 PC11 (io) "PC11/UART4_RX/SPI3_MISO/SDIO_D3/DCMI_D4/USART3_RX/I2S3ext_SD/EVENTOUT", 53 PC12 (io) "PC12/UART5_TX/SDIO_CK/DCMI_D9/SPI3_MOSI/I2S3_SD/USART3_CK/EVENTOUT", 54 PD2 (io) "PD2/TIM3_ETR/UART5_RX/SDIO_CMD/DCMI_D11/EVENTOUT", 55 PB3/JTDO (io) "PB3(JTDO/TRACESWO)/JTDO/TRACESWO/SPI3_SCK/I2S3_CK/TIM2_CH2/SPI1_SCK/EVENTOUT", 56 PB4/JTRST (io) "PB4(NJTRST)/NJTRST/SPI3_MISO/TIM3_CH1/SPI1_MISO/I2S3ext_SD/EVENTOUT", 57 PB5 (io) "PB5/I2C1_SMBA/CAN2_RX/OTG_HS_ULPI_D7/ETH_PPS_OUT/TIM3_CH2/SPI1_MOSI/SPI3_MOSI/DCMI_D10/I2S3_SD/EVENTOUT", 58 PB6 (io) "PB6/I2C1_SCL/TIM4_CH1/CAN2_TX/DCMI_D5/USART1_TX/EVENTOUT", 59 PB7 (io) "PB7/I2C1_SDA/FSMC_NL/DCMI_VSYNC/USART1_RX/TIM4_CH2/EVENTOUT", 60 BOOT0 (in) "BOOT0/VPP", 61 PB8 (io) "PB8/TIM4_CH3/SDIO_D4/TIM10_CH1/DCMI_D6/ETH_MII_TXD3/I2C1_SCL/CAN1_RX/EVENTOUT", 62 PB9 (io) "PB9/SPI2_NSS/I2S2_WS/TIM4_CH4/TIM11_CH1/SDIO_D5/DCMI_D7/I2C1_SDA/CAN1_TX/EVENTOUT"
part B pins: 1 VBAT (power), 12 VSSA, 13 VDDA (power), 18 VSS, 19 VDD (power), 32 VDD (power), 48 VDD (power), 63 VSS, 64 VDD (power)

## STM32F427VGT7
designator U?
ARM® Cortex®-M4 STM32F4 Microcontroller IC 32-Bit 180MHz 1MB (1M x 8) FLASH 100-LQFP (14x14); RAM Size: 256Kx8; Voltage - Supply: 1.8V ~ 3.6V; Part Number: STM32F427VGT7; Distributor Part Number: 497-16769-ND; Distributor: Digikey; Operating Temperature: -40°C ~ 105°C (TA); Speed: 180MHz
footprint STM32F427VGT7 (LQFP-100)
part A pins: 6 VBAT, 10 VSS, 11 VDD, 19 VDD, 20 VSSA, 21 VREF+, 22 VDDA, 27 VSS, 28 VDD, 49 VCAP1, 50 VDD, 73 VCAP2, 74 VSS, 75 VDD, 99 VSS, 100 VDD
part B pins: 23 PA0-WKUP (io), 24 PA1 (io), 25 PA2 (io), 26 PA3 (io), 29 PA4 (io), 30 PA5 (io), 31 PA6 (io), 32 PA7 (io), 35 PB0 (io), 36 PB1 (io), 37 PB2-BOOT1 (io), 47 PB10 (io), 48 PB11 (io), 51 PB12 (io), 52 PB13 (io), 53 PB14 (io), 54 PB15 (io), 67 PA8 (io), 68 PA9 (io), 69 PA10 (io), 70 PA11 (io), 71 PA12 (io), 72 PA13 (io), 76 PA14 (io), 77 PA15 (io), 89 PB3 (io), 90 PB4 (io), 91 PB5 (io), 92 PB6 (io), 93 PB7 (io), 95 PB8 (io), 96 PB9 (io)
part C pins: 7 PC13 (io), 15 PC0 (io), 16 PC1 (io), 17 PC2 (io), 18 PC3 (io), 33 PC4 (io), 34 PC5 (io), 55 PD8 (io), 56 PD9 (io), 57 PD10 (io), 58 PD11 (io), 59 PD12 (io), 60 PD13 (io), 61 PD14 (io), 62 PD15 (io), 63 PC6 (io), 64 PC7 (io), 65 PC8 (io), 66 PC9 (io), 78 PC10 (io), 79 PC11 (io), 80 PC12 (io), 81 PD0 (io), 82 PD1 (io), 83 PD2 (io), 84 PD3 (io), 85 PD4 (io), 86 PD5 (io), 87 PD6 (io), 88 PD7 (io)
part D pins: 1 PE2 (io), 2 PE3 (io), 3 PE4 (io), 4 PE5 (io), 5 PE6 (io), 8 PC14-OSC32_IN (io), 9 PC15-OSC32_OUT (io), 12 PH0-OSC_IN (io), 13 PH1-OSC_OUT (io), 14 NRST, 38 PE7 (io), 39 PE8 (io), 40 PE9 (io), 41 PE10 (io), 42 PE11 (io), 43 PE12 (io), 44 PE13 (io), 45 PE14 (io), 46 PE15 (io), 94 BOOT0, 97 PE0 (io), 98 PE1 (io)
part B text: BANK A/B
part C text: BANK C/D
part D text: BANK E/OSC

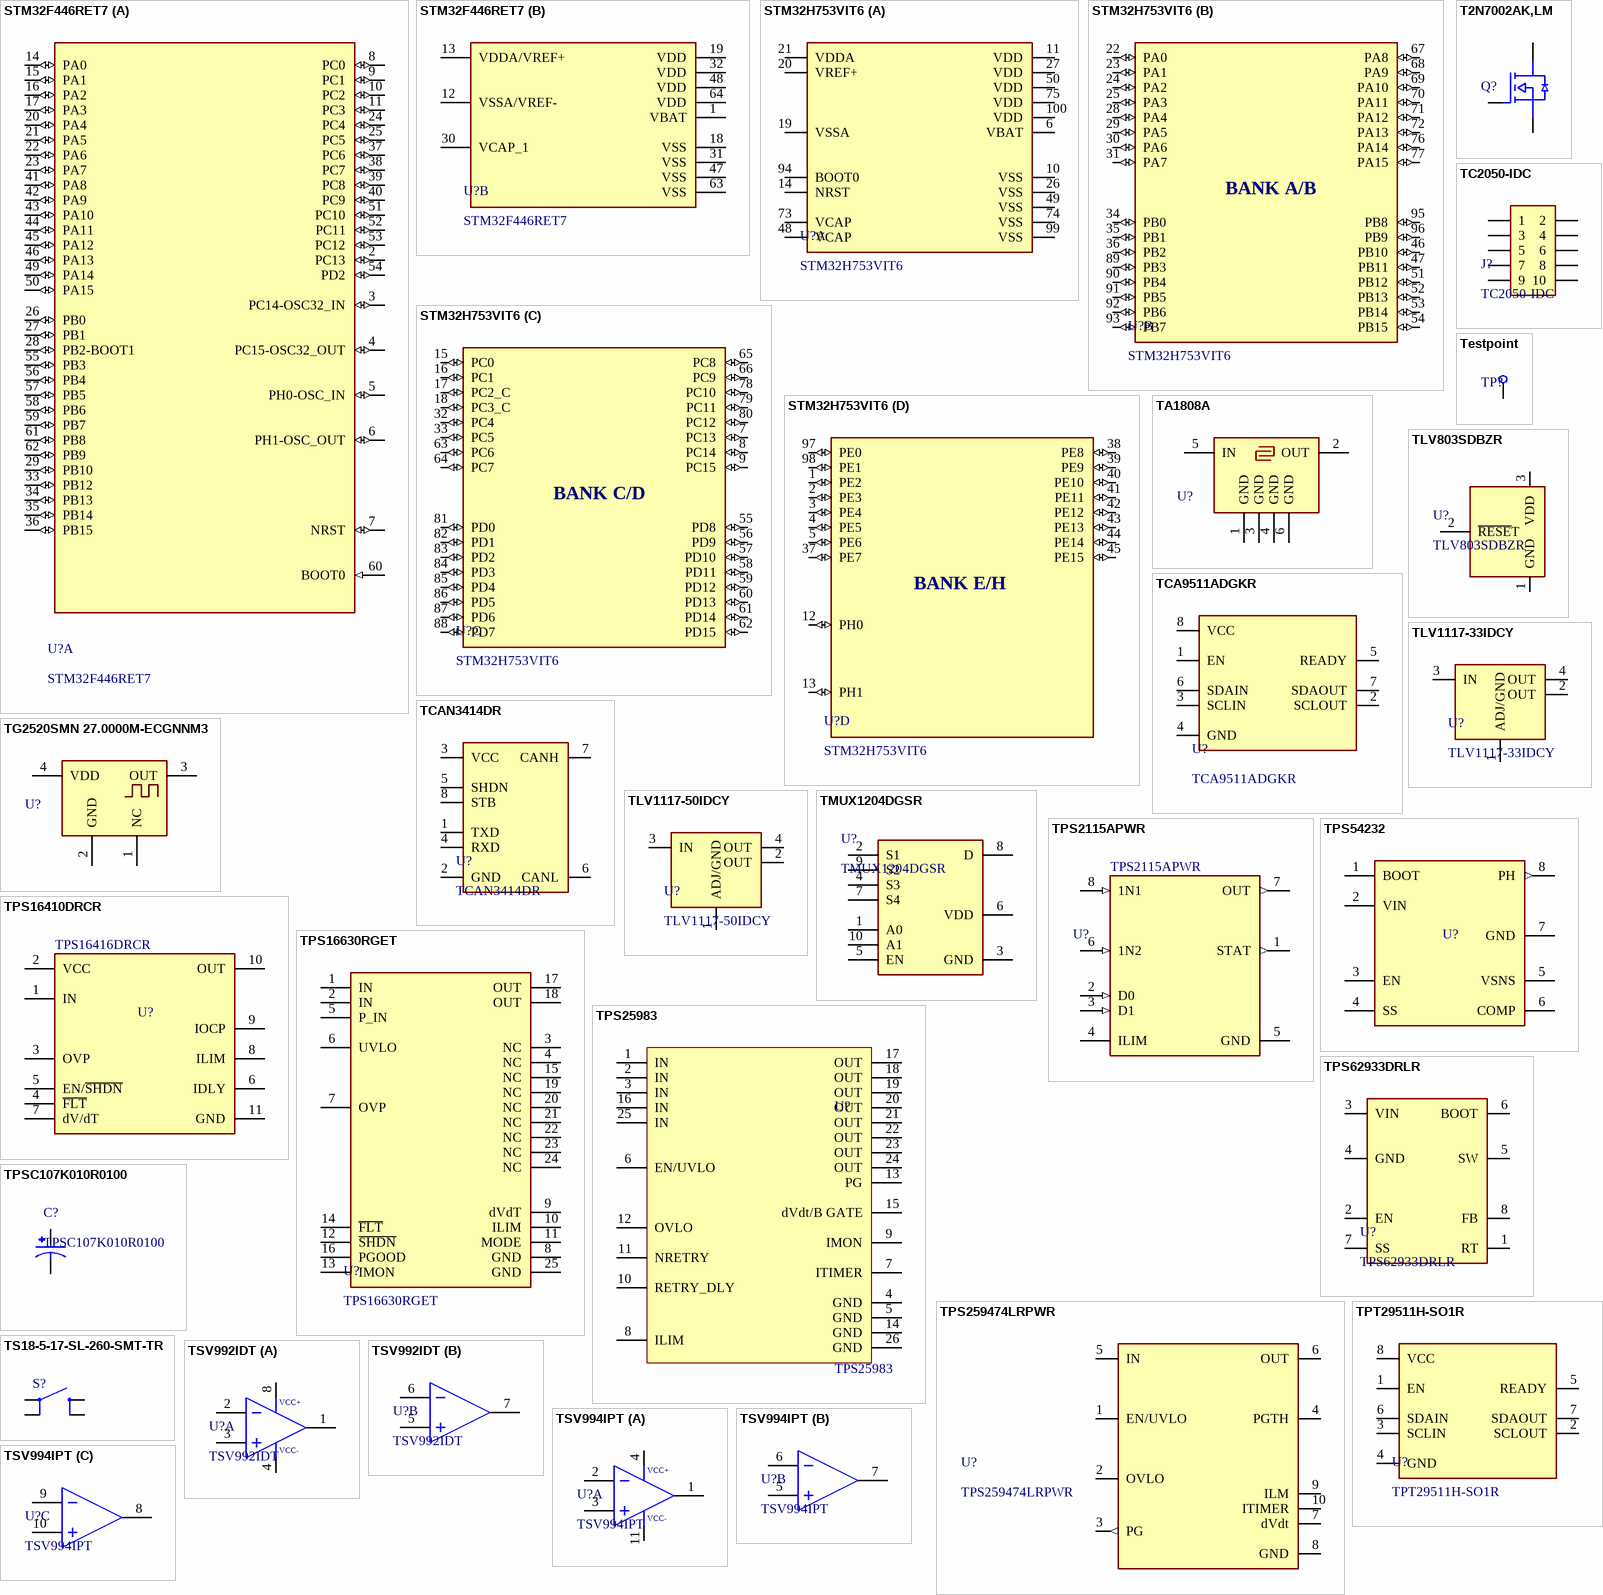
[diagram p11: symbols STM32F446RET7 to TSV994IPT]

## STM32F446RET7
designator U?
ARM® Cortex®-M4 STM32F4 Microcontroller IC 32-Bit 180MHz 512KB (512K x 8) FLASH 64-LQFP (10x10); Part Number: STM32F446RET6; RAM Size: 128K x 8; Voltage - Supply: 1.7V ~ 3.6V; Distributor: *; Distributor Part Number: *; Core Size: 32-Bit; Speed: 180MHz; ComponentLink1Description: Datasheet; ComponentLink1URL: *; Operating Temperature: -40C~105C
footprint LQFP-64
part A pins: 2 PC13 (io), 3 PC14-OSC32_IN (io), 4 PC15-OSC32_OUT (io), 5 PH0-OSC_IN (io), 6 PH1-OSC_OUT (io), 7 NRST (io), 8 PC0 (io), 9 PC1 (io), 10 PC2 (io), 11 PC3 (io), 14 PA0 (io), 15 PA1 (io), 16 PA2 (io), 17 PA3 (io), 20 PA4 (io), 21 PA5 (io), 22 PA6 (io), 23 PA7 (io), 24 PC4 (io), 25 PC5 (io), 26 PB0 (io), 27 PB1 (io), 28 PB2-BOOT1 (io), 29 PB10 (io), 33 PB12 (io), 34 PB13 (io), 35 PB14 (io), 36 PB15 (io), 37 PC6 (io), 38 PC7 (io), 39 PC8 (io), 40 PC9 (io), 41 PA8 (io), 42 PA9 (io), 43 PA10 (io), 44 PA11 (io), 45 PA12 (io), 46 PA13 (io), 49 PA14 (io), 50 PA15 (io), 51 PC10 (io), 52 PC11 (io), 53 PC12 (io), 54 PD2 (io), 55 PB3 (io), 56 PB4 (io), 57 PB5 (io), 58 PB6 (io), 59 PB7 (io), 60 BOOT0 (in), 61 PB8 (io), 62 PB9 (io)
part B pins: 1 VBAT (power), 12 VSSA/VREF- (power), 13 VDDA/VREF+ (power), 18 VSS (power), 19 VDD (power), 30 VCAP_1 (power), 31 VSS (power), 32 VDD (power), 47 VSS (power), 48 VDD (power), 63 VSS (power), 64 VDD (power)

## STM32H753VIT6
designator U?
ARM® Cortex®-M7 STM32H7 Microcontroller IC 32-Bit 480MHz 2MB (2M x 8) FLASH 100-LQFP (14x14); Voltage - Supply: 1.71 ~ 3.6V; Part Number: STM32H753VIT6; Distributor: Digikey; Distributor Part Number: 497-18566-ND; Operating Temperature: -40°C ~ 85°C (TA); Speed: 480MHz
footprint LQFP-100
part A pins: 6 VBAT, 10 VSS, 11 VDD, 14 NRST, 19 VSSA, 20 VREF+, 21 VDDA, 26 VSS, 27 VDD, 48 VCAP, 49 VSS, 50 VDD, 73 VCAP, 74 VSS, 75 VDD, 94 BOOT0, 99 VSS, 100 VDD
part B pins: 22 PA0 (io), 23 PA1 (io), 24 PA2 (io), 25 PA3 (io), 28 PA4 (io), 29 PA5 (io), 30 PA6 (io), 31 PA7 (io), 34 PB0 (io), 35 PB1 (io), 36 PB2 (io), 46 PB10 (io), 47 PB11 (io), 51 PB12 (io), 52 PB13 (io), 53 PB14 (io), 54 PB15 (io), 67 PA8 (io), 68 PA9 (io), 69 PA10 (io), 70 PA11 (io), 71 PA12 (io), 72 PA13 (io), 76 PA14 (io), 77 PA15 (io), 89 PB3 (io), 90 PB4 (io), 91 PB5 (io), 92 PB6 (io), 93 PB7 (io), 95 PB8 (io), 96 PB9 (io)
part C pins: 7 PC13 (io), 8 PC14 (io), 9 PC15 (io), 15 PC0 (io), 16 PC1 (io), 17 PC2_C (io), 18 PC3_C (io), 32 PC4 (io), 33 PC5 (io), 55 PD8 (io), 56 PD9 (io), 57 PD10 (io), 58 PD11 (io), 59 PD12 (io), 60 PD13 (io), 61 PD14 (io), 62 PD15 (io), 63 PC6 (io), 64 PC7 (io), 65 PC8 (io), 66 PC9 (io), 78 PC10 (io), 79 PC11 (io), 80 PC12 (io), 81 PD0 (io), 82 PD1 (io), 83 PD2 (io), 84 PD3 (io), 85 PD4 (io), 86 PD5 (io), 87 PD6 (io), 88 PD7 (io)
part D pins: 1 PE2 (io), 2 PE3 (io), 3 PE4 (io), 4 PE5 (io), 5 PE6 (io), 12 PH0 (io), 13 PH1 (io), 37 PE7 (io), 38 PE8 (io), 39 PE9 (io), 40 PE10 (io), 41 PE11 (io), 42 PE12 (io), 43 PE13 (io), 44 PE14 (io), 45 PE15 (io), 97 PE0 (io), 98 PE1 (io)
part B text: BANK A/B
part C text: BANK C/D
part D text: BANK E/H

## T2N7002AK,LM
designator Q?  (value not drawn)
N-Channel 60 V 200mA (Ta) 320mW (Ta) Surface Mount SOT-23-3; Drain to Source Voltage: 60V; Rds On (Max) @ Id, Vgs: 3.9ohm; Vgs(th) (Max) @ Id: 2.1V @ 250µA; (Id) @ 25°C: 200mA; Vgs (Max): *; Power Dissipation (Max): 320mW (Ta); Operating Temperature: -55C - 150C; Part Number: T2N7002AK,LM; Distributor Part Number: T2N7002AKLMCT-ND; Distributor: Digikey
footprint SOT23-3 MOSFET (Diodes Incorporated SOT-23 land pattern with MOSFET pin designators)
pins: D, G, S

## TA1808A
designator U?
440MHz Frequency General Purpose RF SAW Filter (Surface Acoustic Wave) 2.4dB 20MHz Bandwidth 6-SMD, No Lead; Part Number: TA1808A; Input Power Level: 10dBm; Maximum DC Voltage: 5V; Source Impedance: 50ohm; Frequency - Center: 440MHz; Bandwidth: 20MHz; Insertion Loss: 2.4dB; Operating Temperature: -40C ~ 85C; Load Impedance: 50ohm
footprint TA1808A (FILTER SAW 440MHZ 6-SMD)
pins: 1 GND, 2 OUT, 3 GND, 4 GND, 5 IN, 6 GND

## TC2050-IDC
designator J?  (net tie, no BOM)
JTAG Pogo Programmer Pads; Programmer Part Number: TC2050-IDC
footprint TC2050-IDC (JTAG POGO ADAPTER)
pins: 1, 2, 3, 4, 5, 6, 7, 8, 9, 10

## TCA9511ADGKR
designator U?
Hot-swappable, bidirectional I²C/SMBus bus buffer, 1 V precharge, standard/fast I²C, clock stretching, arbitration, and powered-off high-impedance on bus pins.; Delay Time: 70ns; Part Number: TCA9511ADGKR; Distributor: *; Distributor Part Number: *; Operating Temperature: -40°C ~ 125°C
footprint VSSOP-8 (VSSOP-8 Texas Instruments)
pins: 1 EN, 2 SCLOUT, 3 SCLIN, 4 GND, 5 READY, 6 SDAIN, 7 SDAOUT, 8 VCC

## TCAN3414DR
designator U?
3.3 V CAN-FD transceiver, CAN/CAN-FD up to 8 Mb/s, ±58 V bus-fault tolerant, SOIC-8; Voltage - Supply: 3V ~ 3.6V; Data Rate: 8Mbps; Protocol: CANbus; Part Number: TCAN3414DR; Distributor: Digikey; Distributor Part Number: 296-TCAN3414DRCT-ND; Operating Temperature: -40°C ~ 125°C
footprint SOIC-8 (SOIC-8 Analog Devices Spec)
pins: 1 TXD, 2 GND, 3 VCC, 4 RXD, 5 SHDN, 6 CANL, 7 CANH, 8 STB

## Testpoint
designator TP?
Oscilloscope Testpoint; Operating Temperature: *
footprint 1.5mm Testpoint (1.5mm Testpoint top layer)
pins: 1

## TG2520SMN 27.0000M-ECGNNM3
designator U?  (value not drawn)
27 MHz TCXO Clipped Sine Wave Oscillator 1.8V 4-SMD, No Lead; Frequency: 27MHz; Supply Current: 1.8mA; Part Number: TG2520SMN 27.0000M-ECGNNM3; Output: Clipped Sine Wave; Voltage Supply: 1.8V; Operating Temperature: -45C ~ 85C; ComponentLink1Description: Datasheet; ComponentLink1URL: https://support.epson.biz/td/api/doc_check.php?dl=brief_TG2520SMN&lang=en
footprint TG2520SMN 27.0000M-ECGNNM3 (XTAL OSC TCXO 27.0000MHZ CSWV SM)
pins: 1 NC, 2 GND, 3 OUT, 4 VDD

## TLV803SDBZR
designator U?
Pin Voltage Supervisor, Open Drain or Open Collect, SOT-23; Voltage Threshold: 2.932; Reset: Active Low; Part Number: TLV803SDBZR; Operating Temperature: -40C ~ 125C; ComponentLink1Description: Datasheet; ComponentLink1URL: https://www.ti.com/lit/ds/symlink/tlv803.pdf?HQS=dis-dk-null-digikeymode-dsf-pf-null-wwe&ts=1756098336680&ref_url=https%253A%252F%252Fwww.ti.com%252Fgeneral%252Fdocs%252Fsuppproductinfo.tsp%253FdistId%253D10%2526gotoUrl%253Dhttps%253A%252F%252Fwww.ti.com%252Flit%252Fgpn%252Ftlv803
footprint SOT23-3 IC (Diodes Incorporated SOT-23 land pattern with IC pin designators)
pins: 1 GND, 2 ~{RESE}T, 3 VDD

## TLV1117-33IDCY
designator U?
3.3V 800-mA, 15-V, linear voltage regulator 4-SOT-223 -40 to 125; Output Current: 800mA; Input Voltage - Min: 4.7V; Input Voltage - Max: 15V; Dropout Voltage: 1.2V; Part Number: TLV1117-33IDCY; Output Voltage: 3.3V; Operating Temperature: -40C~125C; Distributor: Digikey; Distributor Part Number: 296-26777-5-ND
footprint TLV1117-33IDCY (4-SOT-223)
pins: 1 ADJ/GND, 2 OUT, 3 IN, 4 OUT

## TLV1117-50IDCY
designator U?
5V 800-mA, 15-V, linear voltage regulator 4-SOT-223 -40 to 125; Output Current: 800mA; Input Voltage - Min: 4.7V; Input Voltage - Max: 15V; Dropout Voltage: 1.2V; Part Number: TLV1117-50IDCY; Output Voltage: 5V; Operating Temperature: -40C~125C
footprint TLV1117-50IDCY (4-SOT-223)
pins: 1 ADJ/GND, 2 OUT, 3 IN, 4 OUT

## TMUX1204DGSR
designator U?
Multiplexer Analog 4:1 SP4T IC Switch 125MHz 5ohm; Number of Circuits: 1; Voltage - Supply: 1.08V~ 5.5V; Switch Time (On): 14ns; Switch Time (Off): 5ns; Charge Injection: 9pC; Part Number: TMUX1204DGSR; Switch Circuit: SP4T; On Resistance: 5Ohm; -3dB Bandwidth: 125MHz; Operating Temperature: -40C ~ 125C
footprint TMUX1204DGSR (TMUX1204DGSR  10VSSOP)
pins: 1 A0, 2 S1, 3 GND, 4 S3, 5 EN, 6 VDD, 7 S4, 8 D, 9 S2, 10 A1

## TPS2115APWR
designator U?  Manufacturer Part Number: TPS2115APWR
2.8-5.5-V, 84-m?, 1.25-A, power mux with manual, automatic switchover and status output 8-TSSOP -40 to 85; Min Input Voltage: 2.8V; Max Input Voltage: 5.5V; Imax: 1.25; Distributor part Number: 296-16940-1-ND; Operating Temperature Range: -40C to 85C; ComponentLink1Description: Datasheet; ComponentLink1URL: https://www.ti.com/lit/ds/symlink/tps2115a-q1.pdf?ts=1728842763076&ref_url=https%253A%252F%252Fwww.google.com%252F; Distributor: Digikey
footprint 8-TSSOP (Generic 8-TSSOP)
pins: 1 STAT (out), 2 D0 (in), 3 D1 (in), 4 ILIM, 5 GND (power), 6 1N2 (in), 7 OUT (out), 8 1N1 (in)

## TPS16410DRCR
designator U?  Part Number: TPS16416DRCR
2.7-V to 40-V 152-mΩ 1.8-A eFuse with output power limiting; Qualification: None; Current - Output: 1.8A; Voltage - Input: 2.7V ~ 40V; Distributor Part Number: *; Package: 10-VSON (3x3); Distributor: *; Operating Temperature: -40C ~ 125C
footprint TPS1641 (2.7-V TO 40-V 152-M 1.8-A EFUSE)
pins: 1 IN, 2 VCC, 3 OVP, 4 ~{FLT}, 5 EN/~{SHDN}, 6 IDLY, 7 dV/dT, 8 ILIM, 9 IOCP, 10 OUT, 11 GND

## TPS16630RGET
designator U?
4.5V ~ 60V eFuse, 31mOhm , 6A with over voltage lockout; Part Number: TPS16630RGET; Distributor: Digikey; Distributor Part Number: 296-TPS16630RGETCT-ND
footprint 24-VQFN (TI 24VQFN)
pins: 1 IN, 2 IN, 3 NC, 4 NC, 5 P_IN, 6 UVLO, 7 OVP, 8 GND, 9 dVdT, 10 ILIM, 11 MODE, 12 ~{SHDN}, 13 IMON, 14 ~{FLT}, 15 NC, 16 PGOOD, 17 OUT, 18 OUT, 19 NC, 20 NC, 21 NC, 22 NC, 23 NC, 24 NC, 25 GND

## TPS25983
designator U?  Manufacturer Part Number: TPS25983
2.7-V to 26-V, 2.7-mΩ 18-A integrated hot-swap eFuse with current monitor and blocking FET driver; Qualification: None; Package: 24-VQFN (4x4); Distributor Part Number: *
footprint TPS25983
pins: 1 IN, 2 IN, 3 IN, 4 GND, 5 GND, 6 EN/UVLO, 7 ITIMER, 8 ILIM, 9 IMON, 10 RETRY_DLY, 11 NRETRY, 12 OVLO, 13 PG, 14 GND, 15 dVdt/B GATE, 16 IN, 17 OUT, 18 OUT, 19 OUT, 20 OUT, 21 OUT, 22 OUT, 23 OUT, 24 OUT, 25 IN, 26 GND

## TPS54232
designator U?
TPS54232 2-A, 28-V, 1-MHz, Step-Down DC-DC Converter With Eco-Mode™; Part Number: TPS54232DR; Voltage - Input (Min): 3.5V; Voltage - Output (Max): 28V; Current - Output: 2A; Digikey Part Number: 296-39414-1-ND; Operating Temperature: -40C~150C; Supplier Device Package: 8-SOIC; ComponentLink1Description: Datasheet; ComponentLink1URL: https://www.ti.com/lit/ds/symlink/tps54232.pdf?HQS=dis-dk-null-digikeymode-dsf-pf-null-wwe&ts=1742338120725&ref_url=https%253A%252F%252Fwww.ti.com%252Fgeneral%252Fdocs%252Fsuppproductinfo.tsp%253FdistId%253D10%2526gotoUrl%253Dhttps%253A%252F%252Fwww.ti.com%252Flit%252Fgpn%252Ftps54232
footprint SOIC-8 (SOIC-8 Analog Devices Spec)
pins: 1 BOOT, 2 VIN, 3 EN, 4 SS, 5 VSNS, 6 COMP, 7 GND (power), 8 PH (out)

## TPS62933DRLR
designator U?
Buck Switching Regulator IC Positive Adjustable 0.8V 1 Output 3A SOT-583; Voltage - Input (Min): 3.8V; Voltage - Input (Max): 30V; Voltage - Output (Max): 22V; Part Number: TPS62933DRLR; Distributor Part Number: 296-TPS62933DRLRCT-ND; Distributor: Digikey; Operating Temperature: -40°C ~ 150°C (TJ); Current Output: 3A; Voltage - Output (Min): 0.8V
footprint SOT-583 (Texas Instruments SOT-583)
simulation model TPS62933P_TRANS_S19 (Model Description)
pins: 1 RT, 2 EN, 3 VIN, 4 GND, 5 SW, 6 BOOT, 7 SS, 8 FB

## TPS259474LRPWR
designator U?
eFuse 5.5A, 2.7V~23V, 28mOhm, Reverse Current Blocking with Input Reverse Polarity Protection; Part Number: TPS259474LRPWR; Distributor: Digikey; Distributor Part Number: 296-TPS259474LRPWRCT-ND; Operating Temperature: -40°C ~ 125°C; Output Current: 5.5A; Voltage Input: 2.7V~23V
footprint VFQFN-10 (TI VFQFN-10)
pins: 1 EN/UVLO, 2 OVLO, 3 PG (out), 4 PGTH, 5 IN, 6 OUT, 7 dVdt, 8 GND, 9 ILM, 10 ITIMER

## TPSC107K010R0100
designator C?
100 µF Molded Tantalum Capacitors 10 V 2312 (6032 Metric) 100mOhm; Voltage Rating: 10V; Capacitance: 100uF; Part Number: TPSC107K010R0100; Distributor: Digikey; Distributor Part Number: 478-1765-1-ND; ESR: 100mOhm; Operating Temperature: -55°C ~ 125°C
simulation model C_Capacitor_Default (Model Description)
footprint 2312 Tantalum
pins: 1, 2

## TPT29511H-SO1R
designator U?
Hot-swappable, bidirectional I²C/SMBus bus buffer, 1Mbps. 1 V precharge ACK Error Protection; Manufacturer: 3PEAK; Delay Time: 66ns; Voltage - Supply: 2.3V ~ 5.5V; Part Number: TPT29511H-SO1R; Distributor: Digikey; Distributor Part Number: 5503-TPT29511H-SO1RCT-ND; Operating Temperature: -40°C ~ 125°C
footprint SOIC-8 (SOIC-8 Analog Devices Spec)
pins: 1 EN, 2 SCLOUT, 3 SCLIN, 4 GND, 5 READY, 6 SDAIN, 7 SDAOUT, 8 VCC

## TS18-5-17-SL-260-SMT-TR
designator S?  (value not drawn)
SWITCH TACTILE SPST-NO 0.05A 12V; Switch Type: SPST; Current Rating: 50mA; Voltage Rating: 12V; Operating Temperature: -30C to 80C; ComponentLink1Description: Datasheet; ComponentLink1URL: https://www.sameskydevices.com/product/resource/ts18.pdf
footprint TS18-5-17-SL-260-SMT-TR (SWITCH TACTILE SPST-NO 0.05A 12V)
pins: 1, 2, 3, 4

## TSV992IDT
designator U?
Operational Amplifier general purpose, 2-Circuit 2.5V ~ 5.5V 1MHz AEC-Q100; Input Voltage: 1.8V ~ 5.5V; Gain Bandwidth Product: 20MHz; Slew Rate: 10V/us; Part Number: TSV992IDT; Distributor: Digikey; Distributor Part Number: 497-6002-1-ND; Operating Temperature: -40°C ~ 125°C
footprint SOIC-8 (SOIC-8 Analog Devices Spec)
part A pins: 1 OUT1, 2 IN1-, 3 IN1+, 4 VCC-, 8 VCC+
part B pins: 5 IN2+, 6 IN2-, 7 OUT2

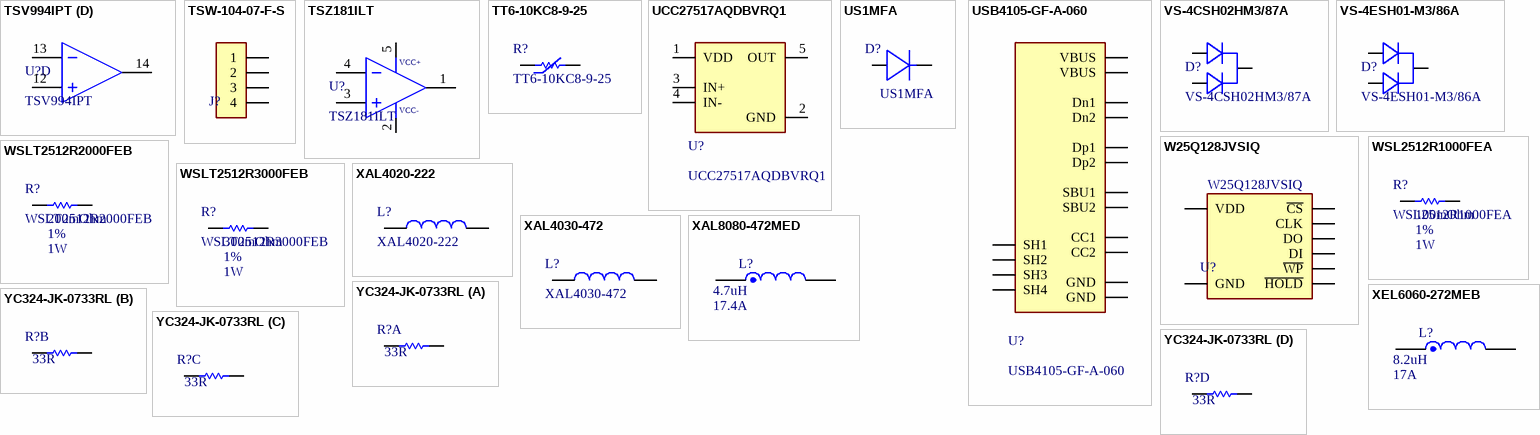
[diagram p12: symbols TSV994IPT to YC324-JK-0733RL]

## TSV994IPT
designator U?
Operational Amplifier general purpose, 4-Circuit 2.5V ~ 5.5V 1MHz AEC-Q100; Input Voltage: 1.8V ~ 5.5V; Gain Bandwidth Product: 20MHz; Slew Rate: 10V/us; Part Number: TSV994IPT; Distributor: Digikey; Distributor Part Number: 497-6003-1-ND; Operating Temperature: -40°C ~ 125°C
footprint 14-TSSOP (Analog Devices 14-TSSOP)
part A pins: 1 OUT1, 2 IN1-, 3 IN1+, 4 VCC+, 11 VCC-
part B pins: 5 IN2+, 6 IN2-, 7 OUT2
part C pins: 8 OUT3, 9 IN3-, 10 IN3+
part D pins: 12 IN4+, 13 IN4-, 14 OUT4

## TSW-104-07-F-S
designator J?  (value not drawn)
Connector Header Through Hole 4 position 0.100" (2.54mm); Material Flammability Rating: UL94 V-0; Number of Positions: 4; Part Number: TSW-104-07-F-S; Distributor: Digikey; Distributor Part Number: SAM8997-ND; Operating Temperature: -55°C ~ 125°C; Pitch: 2.54mm; Number of Rows: 1
footprint TSW-104-07-F-S (Generic 1x4 0.1Inch Header)
pins: 1, 2, 3, 4

## TSZ181ILT
designator U?
Operational Amplifier, General Purpose, 2.2V~5.5V; Voltage Supply (Min): 2.2V; Voltage Supply (Max): 5.5V; Slew Rate: 4.7V/us; Gain Bandwidth Product: 3MHz; Part Number: TSZ181ILT; Distributor: Digikey; Distributor Part Number: 497-18084-1-ND; Operating Temperature: -40°C ~ 125°C
footprint SOT23-5 IC (SOT23-5)
pins: 1 OUT, 2 VCC- (power), 3 IN+, 4 IN-, 5 VCC+ (power)

## TT6-10KC8-9-25
designator R?
NTC Thermistor 10k Probe; Part Number: TT6-10KC8-9-25; Distributor Part Number: 1912-TT6-10KC8-9-25-ND; Distributor: Digikey; Operating Temperature: -30°C ~ 120°C; Resistance @ 25C: 10k
footprint TT6-10KC8-9-25
pins: 1, 2

## UCC27517AQDBVRQ1
designator U?
Low-Side Gate Driver IC Inverting, Non-Inverting SOT-23-5; Rise / Fall Time (Typ): 8ns, 7ns; VIL: 1V; VIH: 2.4V; Voltage Supply: 4.5V ~ 18V; Current - Peak Output: 4A; Part Number: UCC27517AQDBVRQ1; Distributor: Digikey; Distributor Part Number: 296-41038-1-ND; Operating Temperature: -40°C ~ 150°C
footprint SOT23-5 IC (SOT23-5)
pins: 1 VDD, 2 GND, 3 IN+, 4 IN-, 5 OUT

## US1MFA
designator D?  Manufacturer Part Number: US1MFA
Rectifiers 1000V 1A High Effic Rectifier; Vr (Max): 1000; Ir (Max): 5uA; Ifsm: 30A; Operating Temperature: -55 to 150C; If: 1A
footprint SOD123F
pins: A, K

## USB4105-GF-A-060
designator U?
USB-C (USB TYPE-C) USB 2.0 Receptacle Connector 24 (16+8 Dummy) Position Surface Mount, Right Angle; Through Hole; Specifications: USB 2.0; Voltage Rating: 48VDC; Current Rating: 5A; Part Number: USB4105-GF-A-060; Distributor: Digikey; Distributor Part Number: 2073-USB4105-GF-A-060CT-ND; Operating Temperature: -40C ~ 85C
footprint USB4105-GF-A-060 (USB-C (USB TYPE-C) USB 2.0)
pins: A1_B12 GND, A4_B9 VBUS, A5 CC1, A6 Dp1, A7 Dn1, A8 SBU1, B1_A12 GND, B4_A9 VBUS, B5 CC2, B6 Dp2, B7 Dn2, B8 SBU2, SH1, SH2, SH3, SH4

## VS-4CSH02HM3/87A
designator D?
Diode, Fast-recovery 200VRWM 2x2A 24ns recovery time; VRWM: 200V; Average Rectified Forward Current: 4A; Part Number: VS-4CSH02HM3/87A; Distributor: Mouser; Distributor Part Number: VS-4CSH02HM3/87A; Trr: 24ns; Operating Temperature: -65°C to 175°C
footprint VS-4CSH02HM3/87A (TO-277A-3)
pins: A1, A1, K

## VS-4ESH01-M3/86A
designator D?
Diode, Fast-recovery 100VRWM 2x2A 20ns recovery time; VRWM: 100V; Trr: 24ns; Average Rectified Forward Current: 4A; Part Number: VS-4ESH01-M3/86A; Distributor: Digikey; Distributor Part Number: VS-4ESH01-M3/86AGICT-ND; Operating Temperature: -65°C to 175°C
footprint VS-4CSH02HM3/87A (TO-277A-3)
pins: A1, A1, K